# Altium schematic symbol library CAP-P.Schlib: 1 symbol
Pins are listed as number, name and electrical type; pins without a type are passive.

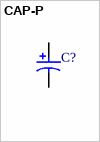
[diagram p0: symbol CAP-P]

## CAP-P
designator C?
Polar Capacitor
pins: 1, 2